# EAGLE library part POT_ALPHA_12MM (library wheat)
POT, STEREO, ALPHA 12MM
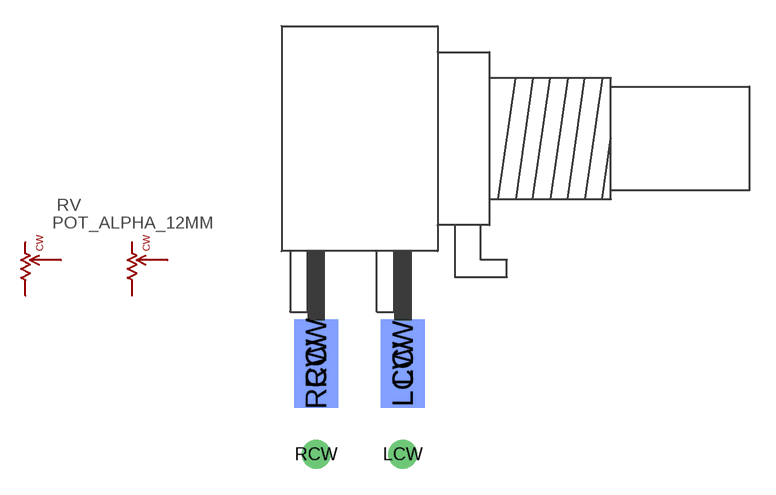
[diagram p60: symbol with the pads of POT_XICON_EDGE; footprint POT_XICON_EDGE]

Designator prefix RV

## POT_ALPHA_12MMEDGE  [POT_XICON_EDGE]
LCCW  CCW1  pas
LCW  CW1  pas
LW  W1  pas
RCCW  CCW2  pas
RCW  CW2  pas
RW  W2  pas

## Footprint POT_XICON_EDGE (pad centres in mm)
POT, XICON STEREO, ON EDGE
smd 2.54 x 5.08 bottom: LCCW -5,-13; RCCW -10,-13
drill 1.016 pad 1.676: LCW -5,-18.23; RCW -10,-18.23
smd 2.54 x 5.08: LW -5,-13; RW -10,-13